# EAGLE library part COMMODORE_PARALLEL_PORT_CARD_EDGE (library commodore-card-edges)
Commodore 26-Contact (13 top + 13 bottom) Parallel Port Card-Edge. Contacts are 0.05" x 0.35" on a 0.1" pitch. Numbering alternates between top and bottom, with contact 1 at bottom. Contacts 1 and 2 are on same end of card-edge. There is a 0.05" gap between contacts 21/22 and 23/24. Card edge protrudes 0.55" from main circuit board.
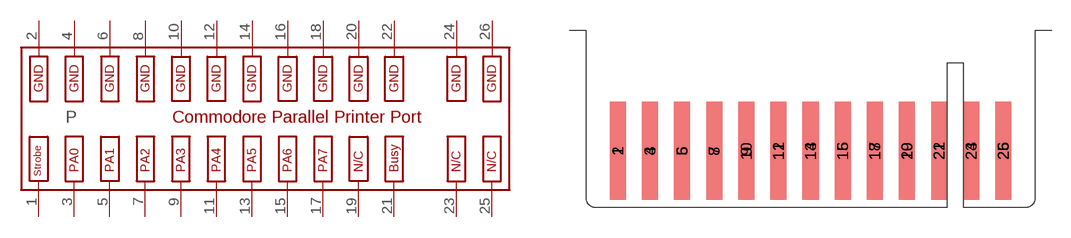
[diagram p0: symbol with the pads of COMMODORE_PARALLEL_PORT_CARD_EDGE; footprint COMMODORE_PARALLEL_PORT_CARD_EDGE]

Designator prefix P

## COMMODORE_PARALLEL_PORT_CARD_EDGE  [COMMODORE_PARALLEL_PORT_CARD_EDGE]
1  STROBE
2  GND  pwr
3  PA0
4  GND  pwr
5  PA1
6  GND  pwr
7  PA2
8  GND  pwr
9  PA3
10  GND  pwr
11  PA4
12  GND  pwr
13  PA5
14  GND  pwr
15  PA6
16  GND  pwr
17  PA7
18  GND  pwr
19  N/C  nc
20  GND  pwr
21  BUSY
22  GND  pwr
23  N/C  nc
24  GND  pwr
25  N/C  nc
26  GND  pwr

## Footprint COMMODORE_PARALLEL_PORT_CARD_EDGE (pad centres in mm)
Commodore 26-Contact (13 top + 13 bottom) Parallel Port Card-Edge. Contacts are 0.05" x 0.35" on a 0.1" pitch. Numbering alternates between top and bottom, with contact 1 at bottom. Contacts 1 and 2 are on same end of card-edge. There is a 0.05" gap between contacts 21/22 and 23/24. Card edge protrudes 0.55" from main circuit board.
smd 1.27 x 7.747 bottom: 1 -13.97,0; 3 -11.43,0; 5 -8.89,0; 7 -6.35,0; 9 -3.81,0; 11 -1.27,0; 13 1.27,0; 15 3.81,0; 17 6.35,0; 19 8.89,0; 21 11.43,0; 23 13.97,0; 25 16.51,0
smd 1.27 x 7.747: 2 -13.97,0; 4 -11.43,0; 6 -8.89,0; 8 -6.35,0; 10 -3.81,0; 12 -1.27,0; 14 1.27,0; 16 3.81,0; 18 6.35,0; 20 8.89,0; 22 11.43,0; 24 13.97,0; 26 16.51,0